# EAGLE library part CC2541F128RHAT (library CC2541F128RHAT)
IC, SOC, BLUETOOTH, 2.4GHZ, 40VQFN
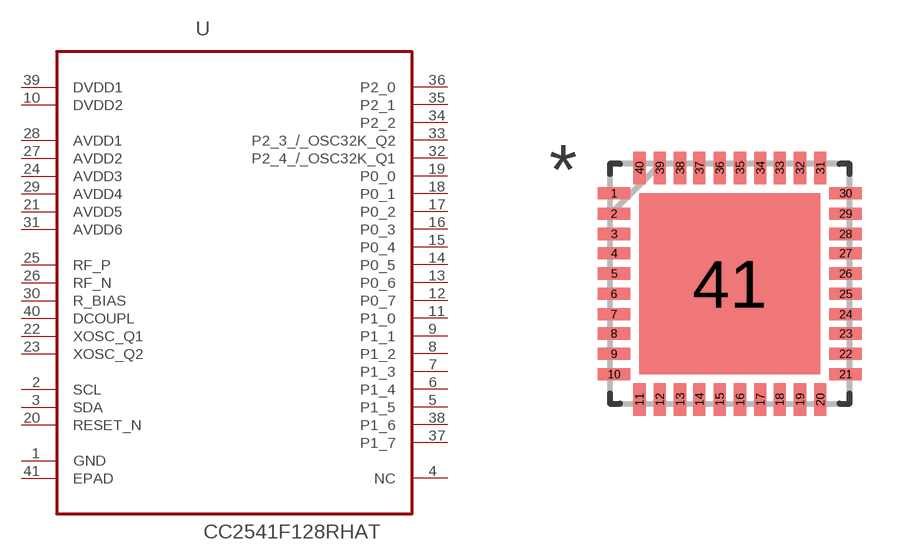
[diagram p0: symbol with the pads of QFN50P600X600X80-41N; footprint QFN50P600X600X80-41N]

Designator prefix U

## CC2541F128RHAT (MPN: CC2541F128RHAT; OC_FARNELL: 2281643; OC_NEWARK: 47W2295; PACKAGE: 40VQFN; SUPPLIER: Texas Instruments)  [QFN50P600X600X80-41N]
1  GND  pas
2  SCL  pas
3  SDA  pas
4  NC  nc
5  P1_5
6  P1_4
7  P1_3
8  P1_2
9  P1_1
10  DVDD2  pwr
11  P1_0
12  P0_7
13  P0_6
14  P0_5
15  P0_4
16  P0_3
17  P0_2
18  P0_1
19  P0_0
20  RESET_N  pas
21  AVDD5  pwr
22  XOSC_Q1  pas
23  XOSC_Q2  pas
24  AVDD3  pwr
25  RF_P  pas
26  RF_N  pas
27  AVDD2  pwr
28  AVDD1  pwr
29  AVDD4  pwr
30  R_BIAS  pas
31  AVDD6  pwr
32  P2_4_/_OSC32K_Q1
33  P2_3_/_OSC32K_Q2
34  P2_2
35  P2_1
36  P2_0
37  P1_7
38  P1_6
39  DVDD1  pwr
40  DCOUPL  pas
41  EPAD  pas

## Footprint QFN50P600X600X80-41N (pad centres in mm)
smd 0.813 x 0.305: 1 -2.896,2.261; 2 -2.896,1.753; 3 -2.896,1.245; 4 -2.896,0.762; 5 -2.896,0.254; 6 -2.896,-0.254; 7 -2.896,-0.762; 8 -2.896,-1.245; 9 -2.896,-1.753; 10 -2.896,-2.261; 21 2.896,-2.261; 22 2.896,-1.753; 23 2.896,-1.245; 24 2.896,-0.762; 25 2.896,-0.254; 26 2.896,0.254; 27 2.896,0.762; 28 2.896,1.245; 29 2.896,1.753; 30 2.896,2.261
smd 0.305 x 0.813: 11 -2.261,-2.896; 12 -1.753,-2.896; 13 -1.245,-2.896; 14 -0.762,-2.896; 15 -0.254,-2.896; 16 0.254,-2.896; 17 0.762,-2.896; 18 1.245,-2.896; 19 1.753,-2.896; 20 2.261,-2.896; 31 2.261,2.896; 32 1.753,2.896; 33 1.245,2.896; 34 0.762,2.896; 35 0.254,2.896; 36 -0.254,2.896; 37 -0.762,2.896; 38 -1.245,2.896; 39 -1.753,2.896; 40 -2.261,2.896
smd 4.521 x 4.521: 41 0,0